# Altium integrated library Linear Technology Power Management LED Driver ICs.IntLib: 490 symbols (part 6 of 48)
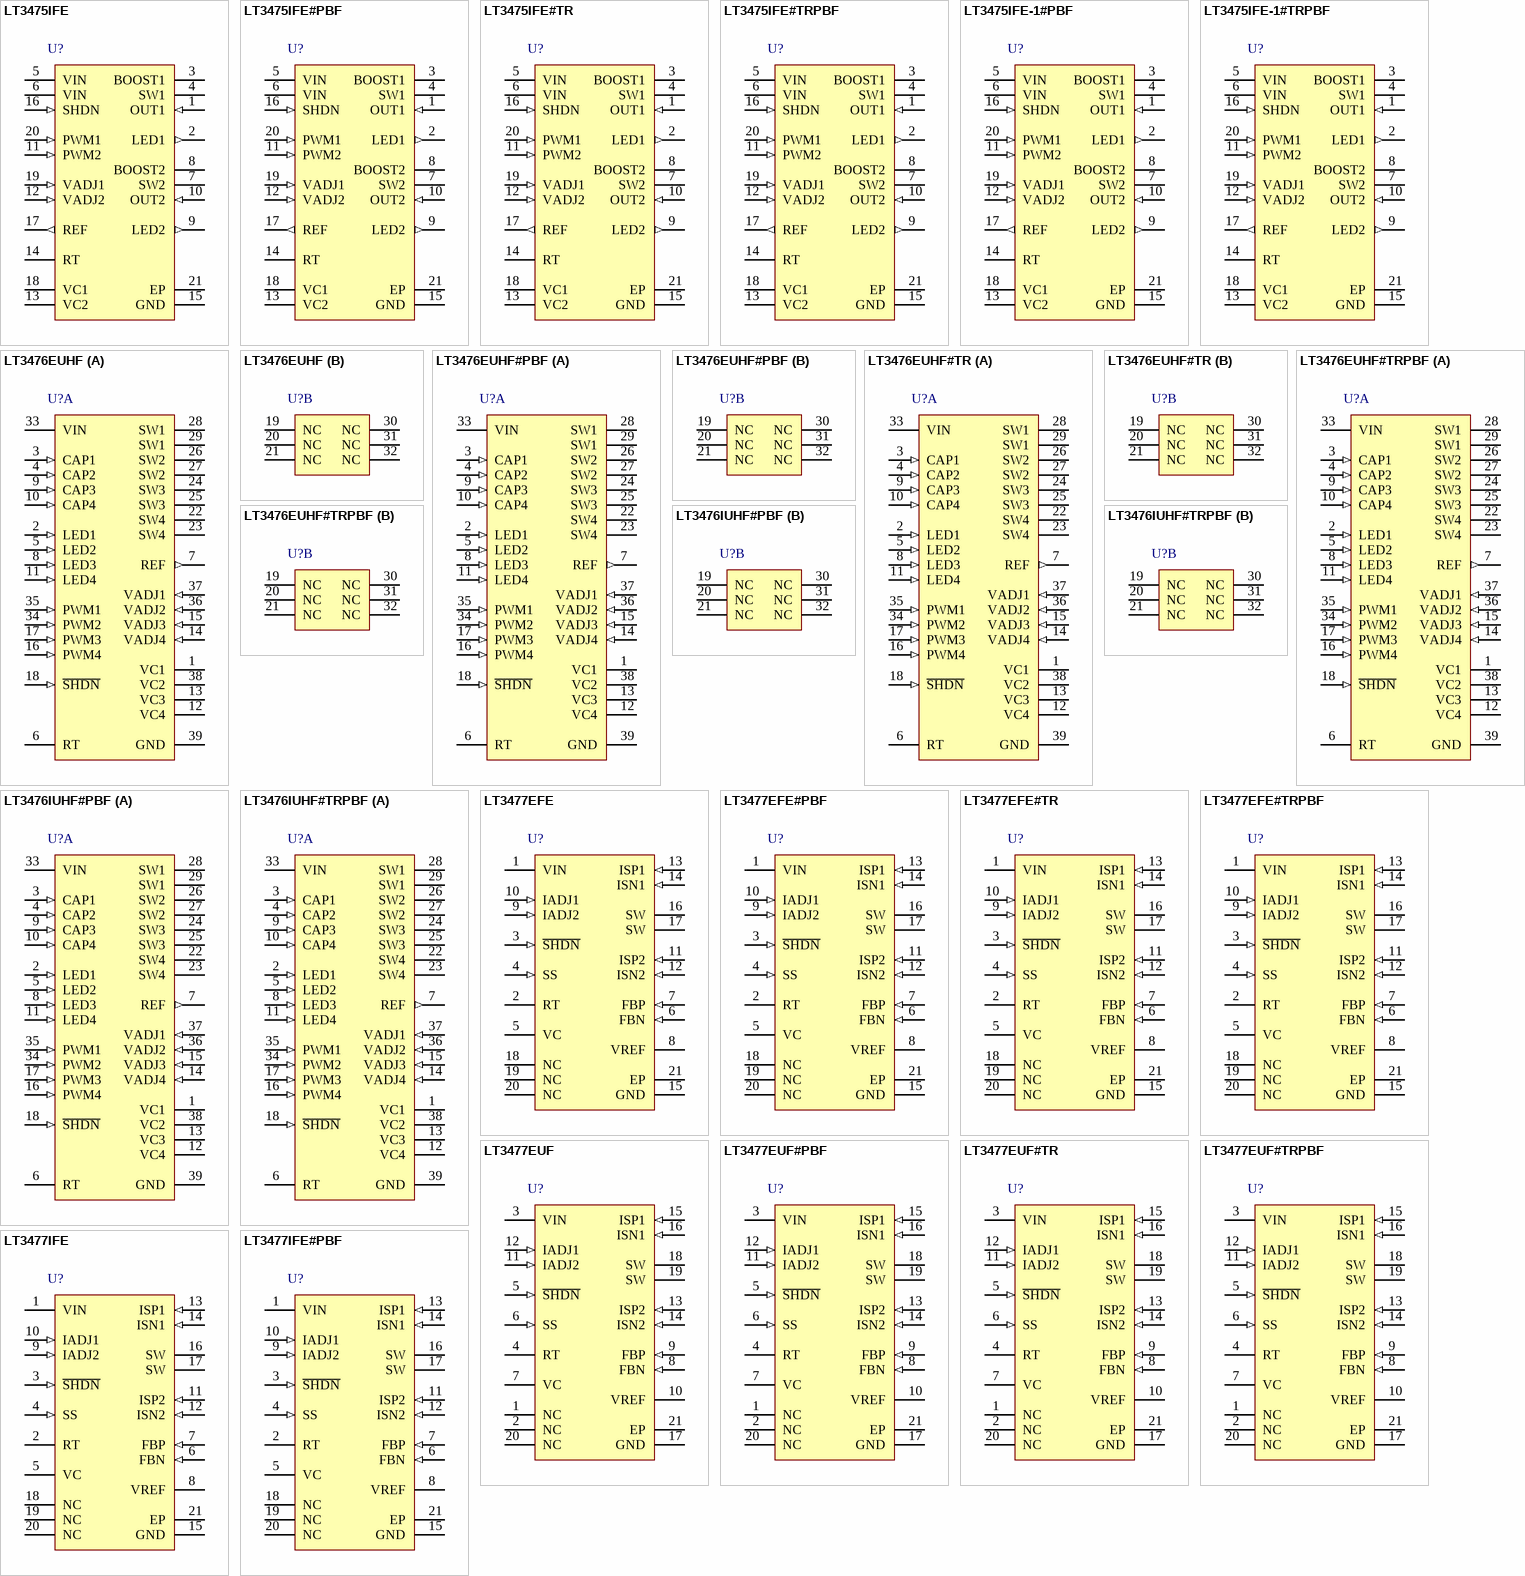
[diagram p25: symbols LT3475IFE to LT3477IFE#PBF]

## LT3476EUHF#PBF
designator U?
High Current Quad Output LED Driver, 2.8 to 16 V Vin, 36 V Vout MAX, 38-pin QFN (UHF-38), -40 to 85 degC, Pb-Free; Manufacturer: Linear Technology; PartNumber: LT3476EUHF#PBF; Topology: Boost, Buck-Boost, Buck, LED Driver; Vin Min(V): 2.8; DatasheetVersion: Rev. B; PackageVersion: Rev. C, 06/2010; PackageReference: UHF-38; PackageDescription: 38-Pin Plastic QFN, Body 7 x 5 mm, Pitch 0.5 mm; Supplier 1: Digi-Key; Supplier Part Number 1: LT3476EUHF#PBF-ND; Supplier 2: Farnell; Supplier Part Number 2: 1715219; Supplier 3: Newark; Supplier Part Number 3: 57M8306; RoHS: TRUE; Mounting Technology: Surface Mount; Code_JEDEC: MO-220; ComponentLink1Description: Manufacturer URL; ComponentLink1URL: http://www.linear.com/; ComponentLink2Description: Datasheet; ComponentLink2URL: http://cds.linear.com/docs/en/datasheet/3476fb.pdf; ComponentLink3Description: Package Specification; ComponentLink3URL: http://cds.linear.com/docs/en/packaging/QFN_38_05-08-1701.pdf
footprint LT-UHF-38_N (QFN, 38-Leads, Body 7.1x5.1mm, Pitch 0.5mm, Thermal Pad 3.15x5.15mm, IPC Medium Density)
footprint LT-UHF-38_L (QFN, 38-Leads, Body 7.1x5.1mm, Pitch 0.5mm, Thermal Pad 3.15x5.15mm, IPC High Density)
footprint LT-UHF-38_M (QFN, 38-Leads, Body 7.1x5.1mm, Pitch 0.5mm, Thermal Pad 3.15x5.15mm, IPC Low Density)
part A pins: 1 VC1 "Error Amplifier Compensation Pin. When PWM is low, VC pin floats external compensation capacitor to save state for next cycle.", 2 LED1 (in) "Non-Inverting Input of Current Sense Error Amplifier. Connect directly to LED current sense resistor terminal. Switcher will regulate this node to a voltage of 0.1• VADJ below the CAP node. Also connected to CAP nod(See Datasheet)", 3 CAP1 (in) "Inverting input of current sense error amplifier. Connect directly to other terminal of LED current sense resistor. Also connected to output filter capacitor and cathode of external Schottky rectifier. CAP greater than the (See Datasheet)", 4 CAP2 (in) "Inverting input of current sense error amplifier. Connect directly to other terminal of LED current sense resistor. Also connected to output filter capacitor and cathode of external Schottky rectifier. CAP greater than the (See Datasheet)", 5 LED2 (in) "Non-Inverting Input of Current Sense Error Amplifier. Connect directly to LED current sense resistor terminal. Switcher will regulate this node to a voltage of 0.1• VADJ below the CAP node. Also connected to CAP nod(See Datasheet)", 6 RT "Oscillator Programming Pin. Place resistor connected to GND to program oscillator frequency.", 7 REF (out) "Reference Output Pin. Connect to VADJ pin to get full-scale LED current. Connect to resistor dividers to program VADJ pins to values lower than 1.05 V. Bypass to local GND with 0.1 uF capacitor.", 8 LED3 (in) "Non-Inverting Input of Current Sense Error Amplifier. Connect directly to LED current sense resistor terminal. Switcher will regulate this node to a voltage of 0.1• VADJ below the CAP node. Also connected to CAP nod(See Datasheet)", 9 CAP3 (in) "Inverting input of current sense error amplifier. Connect directly to other terminal of LED current sense resistor. Also connected to output filter capacitor and cathode of external Schottky rectifier. CAP greater than the (See Datasheet)", 10 CAP4 (in) "Inverting input of current sense error amplifier. Connect directly to other terminal of LED current sense resistor. Also connected to output filter capacitor and cathode of external Schottky rectifier. CAP greater than the (See Datasheet)", 11 LED4 (in) "Non-Inverting Input of Current Sense Error Amplifier. Connect directly to LED current sense resistor terminal. Switcher will regulate this node to a voltage of 0.1• VADJ below the CAP node. Also connected to CAP nod(See Datasheet)", 12 VC4 "Error Amplifier Compensation Pin. When PWM is low, VC pin floats external compensation capacitor to save state for next cycle.", 13 VC3 "Error Amplifier Compensation Pin. When PWM is low, VC pin floats external compensation capacitor to save state for next cycle.", 14 VADJ4 (in) "LED Current Adjustment Pin. Sets voltage across external sense resistor between CAPn and LEDn. Connect directly to REF for full-scale threshold of 105 mV, or use signal vales between GND and REF to modulate LED current. VADJ (See Datasheet)", 15 VADJ3 (in) "LED Current Adjustment Pin. Sets voltage across external sense resistor between CAPn and LEDn. Connect directly to REF for full-scale threshold of 105 mV, or use signal vales between GND and REF to modulate LED current. VADJ (See Datasheet)", 16 PWM4 (in) "Signal low turns off the channel-disables the main switch, reduces quiescent supply current to the channel, and causes the VC pin for the channel to become high impedance.", 17 PWM3 (in) "Signal low turns off the channel-disables the main switch, reduces quiescent supply current to the channel, and causes the VC pin for the channel to become high impedance.", 18 ~{SHDN} (in) "Shutdown Pin. Higher than 1.5 V turns the device on.", 22 SW4 (power) "Switch Pin. Connect to external inductor and anode of external Schottky rectifier. Minimize area of SW trace and use a GND plane to reduce EMI. Adjacent pins of same name are internally connected.", 23 SW4 (power) "Switch Pin. Connect to external inductor and anode of external Schottky rectifier. Minimize area of SW trace and use a GND plane to reduce EMI. Adjacent pins of same name are internally connected.", 24 SW3 (power) "Switch Pin. Connect to external inductor and anode of external Schottky rectifier. Minimize area of SW trace and use a GND plane to reduce EMI. Adjacent pins of same name are internally connected.", 25 SW3 (power) "Switch Pin. Connect to external inductor and anode of external Schottky rectifier. Minimize area of SW trace and use a GND plane to reduce EMI. Adjacent pins of same name are internally connected.", 26 SW2 (power) "Switch Pin. Connect to external inductor and anode of external Schottky rectifier. Minimize area of SW trace and use a GND plane to reduce EMI. Adjacent pins of same name are internally connected.", 27 SW2 (power) "Switch Pin. Connect to external inductor and anode of external Schottky rectifier. Minimize area of SW trace and use a GND plane to reduce EMI. Adjacent pins of same name are internally connected.", 28 SW1 (power) "Switch Pin. Connect to external inductor and anode of external Schottky rectifier. Minimize area of SW trace and use a GND plane to reduce EMI. Adjacent pins of same name are internally connected.", 29 SW1 (power) "Switch Pin. Connect to external inductor and anode of external Schottky rectifier. Minimize area of SW trace and use a GND plane to reduce EMI. Adjacent pins of same name are internally connected.", 33 VIN (power) "Input Supply Pin. Must be locally bypassed.", 34 PWM2 (in) "Signal low turns off the channel-disables the main switch, reduces quiescent supply current to the channel, and causes the VC pin for the channel to become high impedance.", 35 PWM1 (in) "Signal low turns off the channel-disables the main switch, reduces quiescent supply current to the channel, and causes the VC pin for the channel to become high impedance.", 36 VADJ2 (in) "LED Current Adjustment Pin. Sets voltage across external sense resistor between CAPn and LEDn. Connect directly to REF for full-scale threshold of 105 mV, or use signal vales between GND and REF to modulate LED current. VADJ (See Datasheet)", 37 VADJ1 (in) "LED Current Adjustment Pin. Sets voltage across external sense resistor between CAPn and LEDn. Connect directly to REF for full-scale threshold of 105 mV, or use signal vales between GND and REF to modulate LED current. VADJ (See Datasheet)", 38 VC2 "Error Amplifier Compensation Pin. When PWM is low, VC pin floats external compensation capacitor to save state for next cycle.", 39 GND (power) "Signal and Power GND. Solder exposed pad directly to ground plane. The exposed pad metal of the package provides both electrical contact to ground and good thermal contact to the printed circuit board. It must be soldered to (See Datasheet)"
part B pins: 19 NC "Not Used. Connect to GND (Pin 39) for better heat dissipation.", 20 NC "Not Used. Connect to GND (Pin 39) for better heat dissipation.", 21 NC "Not Used. Connect to GND (Pin 39) for better heat dissipation.", 30 NC "Not Used. Connect to GND (Pin 39) for better heat dissipation.", 31 NC "Not Used. Connect to GND (Pin 39) for better heat dissipation.", 32 NC "Not Used. Connect to GND (Pin 39) for better heat dissipation."

## LT3476EUHF#TR
designator U?
High Current Quad Output LED Driver, 2.8 to 16 V Vin, 36 V Vout MAX, 38-pin QFN (UHF-38), -40 to 85 degC, Tape and Reel; Manufacturer: Linear Technology; PartNumber: LT3476EUHF#TR; Topology: Boost, Buck-Boost, Buck, LED Driver; Vin Min(V): 2.8; DatasheetVersion: Rev. B; PackageVersion: Rev. C, 06/2010; PackageReference: UHF-38; PackageDescription: 38-Pin Plastic QFN, Body 7 x 5 mm, Pitch 0.5 mm; Supplier 1: Newark; Supplier Part Number 1: 57M8307; Packing: Tape and Reel; RoHS: FALSE; Mounting Technology: Surface Mount; Code_JEDEC: MO-220; ComponentLink1Description: Manufacturer URL; ComponentLink1URL: http://www.linear.com/; ComponentLink2Description: Datasheet; ComponentLink2URL: http://cds.linear.com/docs/en/datasheet/3476fb.pdf; ComponentLink3Description: Package Specification; ComponentLink3URL: http://cds.linear.com/docs/en/packaging/QFN_38_05-08-1701.pdf
footprint LT-UHF-38_N (QFN, 38-Leads, Body 7.1x5.1mm, Pitch 0.5mm, Thermal Pad 3.15x5.15mm, IPC Medium Density)
footprint LT-UHF-38_L (QFN, 38-Leads, Body 7.1x5.1mm, Pitch 0.5mm, Thermal Pad 3.15x5.15mm, IPC High Density)
footprint LT-UHF-38_M (QFN, 38-Leads, Body 7.1x5.1mm, Pitch 0.5mm, Thermal Pad 3.15x5.15mm, IPC Low Density)
part A pins: 1 VC1 "Error Amplifier Compensation Pin. When PWM is low, VC pin floats external compensation capacitor to save state for next cycle.", 2 LED1 (in) "Non-Inverting Input of Current Sense Error Amplifier. Connect directly to LED current sense resistor terminal. Switcher will regulate this node to a voltage of 0.1• VADJ below the CAP node. Also connected to CAP nod(See Datasheet)", 3 CAP1 (in) "Inverting input of current sense error amplifier. Connect directly to other terminal of LED current sense resistor. Also connected to output filter capacitor and cathode of external Schottky rectifier. CAP greater than the (See Datasheet)", 4 CAP2 (in) "Inverting input of current sense error amplifier. Connect directly to other terminal of LED current sense resistor. Also connected to output filter capacitor and cathode of external Schottky rectifier. CAP greater than the (See Datasheet)", 5 LED2 (in) "Non-Inverting Input of Current Sense Error Amplifier. Connect directly to LED current sense resistor terminal. Switcher will regulate this node to a voltage of 0.1• VADJ below the CAP node. Also connected to CAP nod(See Datasheet)", 6 RT "Oscillator Programming Pin. Place resistor connected to GND to program oscillator frequency.", 7 REF (out) "Reference Output Pin. Connect to VADJ pin to get full-scale LED current. Connect to resistor dividers to program VADJ pins to values lower than 1.05 V. Bypass to local GND with 0.1 uF capacitor.", 8 LED3 (in) "Non-Inverting Input of Current Sense Error Amplifier. Connect directly to LED current sense resistor terminal. Switcher will regulate this node to a voltage of 0.1• VADJ below the CAP node. Also connected to CAP nod(See Datasheet)", 9 CAP3 (in) "Inverting input of current sense error amplifier. Connect directly to other terminal of LED current sense resistor. Also connected to output filter capacitor and cathode of external Schottky rectifier. CAP greater than the (See Datasheet)", 10 CAP4 (in) "Inverting input of current sense error amplifier. Connect directly to other terminal of LED current sense resistor. Also connected to output filter capacitor and cathode of external Schottky rectifier. CAP greater than the (See Datasheet)", 11 LED4 (in) "Non-Inverting Input of Current Sense Error Amplifier. Connect directly to LED current sense resistor terminal. Switcher will regulate this node to a voltage of 0.1• VADJ below the CAP node. Also connected to CAP nod(See Datasheet)", 12 VC4 "Error Amplifier Compensation Pin. When PWM is low, VC pin floats external compensation capacitor to save state for next cycle.", 13 VC3 "Error Amplifier Compensation Pin. When PWM is low, VC pin floats external compensation capacitor to save state for next cycle.", 14 VADJ4 (in) "LED Current Adjustment Pin. Sets voltage across external sense resistor between CAPn and LEDn. Connect directly to REF for full-scale threshold of 105 mV, or use signal vales between GND and REF to modulate LED current. VADJ (See Datasheet)", 15 VADJ3 (in) "LED Current Adjustment Pin. Sets voltage across external sense resistor between CAPn and LEDn. Connect directly to REF for full-scale threshold of 105 mV, or use signal vales between GND and REF to modulate LED current. VADJ (See Datasheet)", 16 PWM4 (in) "Signal low turns off the channel-disables the main switch, reduces quiescent supply current to the channel, and causes the VC pin for the channel to become high impedance.", 17 PWM3 (in) "Signal low turns off the channel-disables the main switch, reduces quiescent supply current to the channel, and causes the VC pin for the channel to become high impedance.", 18 ~{SHDN} (in) "Shutdown Pin. Higher than 1.5 V turns the device on.", 22 SW4 (power) "Switch Pin. Connect to external inductor and anode of external Schottky rectifier. Minimize area of SW trace and use a GND plane to reduce EMI. Adjacent pins of same name are internally connected.", 23 SW4 (power) "Switch Pin. Connect to external inductor and anode of external Schottky rectifier. Minimize area of SW trace and use a GND plane to reduce EMI. Adjacent pins of same name are internally connected.", 24 SW3 (power) "Switch Pin. Connect to external inductor and anode of external Schottky rectifier. Minimize area of SW trace and use a GND plane to reduce EMI. Adjacent pins of same name are internally connected.", 25 SW3 (power) "Switch Pin. Connect to external inductor and anode of external Schottky rectifier. Minimize area of SW trace and use a GND plane to reduce EMI. Adjacent pins of same name are internally connected.", 26 SW2 (power) "Switch Pin. Connect to external inductor and anode of external Schottky rectifier. Minimize area of SW trace and use a GND plane to reduce EMI. Adjacent pins of same name are internally connected.", 27 SW2 (power) "Switch Pin. Connect to external inductor and anode of external Schottky rectifier. Minimize area of SW trace and use a GND plane to reduce EMI. Adjacent pins of same name are internally connected.", 28 SW1 (power) "Switch Pin. Connect to external inductor and anode of external Schottky rectifier. Minimize area of SW trace and use a GND plane to reduce EMI. Adjacent pins of same name are internally connected.", 29 SW1 (power) "Switch Pin. Connect to external inductor and anode of external Schottky rectifier. Minimize area of SW trace and use a GND plane to reduce EMI. Adjacent pins of same name are internally connected.", 33 VIN (power) "Input Supply Pin. Must be locally bypassed.", 34 PWM2 (in) "Signal low turns off the channel-disables the main switch, reduces quiescent supply current to the channel, and causes the VC pin for the channel to become high impedance.", 35 PWM1 (in) "Signal low turns off the channel-disables the main switch, reduces quiescent supply current to the channel, and causes the VC pin for the channel to become high impedance.", 36 VADJ2 (in) "LED Current Adjustment Pin. Sets voltage across external sense resistor between CAPn and LEDn. Connect directly to REF for full-scale threshold of 105 mV, or use signal vales between GND and REF to modulate LED current. VADJ (See Datasheet)", 37 VADJ1 (in) "LED Current Adjustment Pin. Sets voltage across external sense resistor between CAPn and LEDn. Connect directly to REF for full-scale threshold of 105 mV, or use signal vales between GND and REF to modulate LED current. VADJ (See Datasheet)", 38 VC2 "Error Amplifier Compensation Pin. When PWM is low, VC pin floats external compensation capacitor to save state for next cycle.", 39 GND (power) "Signal and Power GND. Solder exposed pad directly to ground plane. The exposed pad metal of the package provides both electrical contact to ground and good thermal contact to the printed circuit board. It must be soldered to (See Datasheet)"
part B pins: 19 NC "Not Used. Connect to GND (Pin 39) for better heat dissipation.", 20 NC "Not Used. Connect to GND (Pin 39) for better heat dissipation.", 21 NC "Not Used. Connect to GND (Pin 39) for better heat dissipation.", 30 NC "Not Used. Connect to GND (Pin 39) for better heat dissipation.", 31 NC "Not Used. Connect to GND (Pin 39) for better heat dissipation.", 32 NC "Not Used. Connect to GND (Pin 39) for better heat dissipation."

## LT3476EUHF#TRPBF
designator U?
High Current Quad Output LED Driver, 2.8 to 16 V Vin, 36 V Vout MAX, 38-pin QFN (UHF-38), -40 to 85 degC, Pb-Free, Tape and Reel; Manufacturer: Linear Technology; PartNumber: LT3476EUHF#TRPBF; Topology: Boost, Buck-Boost, Buck, LED Driver; Vin Min(V): 2.8; DatasheetVersion: Rev. B; PackageVersion: Rev. C, 06/2010; PackageReference: UHF-38; PackageDescription: 38-Pin Plastic QFN, Body 7 x 5 mm, Pitch 0.5 mm; Supplier 1: Digi-Key; Supplier Part Number 1: LT3476EUHF#TRPBF-ND; Supplier 2: Newark; Supplier Part Number 2: 57M8308; Packing: Tape and Reel; RoHS: TRUE; Mounting Technology: Surface Mount; Code_JEDEC: MO-220; ComponentLink1Description: Manufacturer URL; ComponentLink1URL: http://www.linear.com/; ComponentLink2Description: Datasheet; ComponentLink2URL: http://cds.linear.com/docs/en/datasheet/3476fb.pdf; ComponentLink3Description: Package Specification; ComponentLink3URL: http://cds.linear.com/docs/en/packaging/QFN_38_05-08-1701.pdf
footprint LT-UHF-38_N (QFN, 38-Leads, Body 7.1x5.1mm, Pitch 0.5mm, Thermal Pad 3.15x5.15mm, IPC Medium Density)
footprint LT-UHF-38_L (QFN, 38-Leads, Body 7.1x5.1mm, Pitch 0.5mm, Thermal Pad 3.15x5.15mm, IPC High Density)
footprint LT-UHF-38_M (QFN, 38-Leads, Body 7.1x5.1mm, Pitch 0.5mm, Thermal Pad 3.15x5.15mm, IPC Low Density)
part A pins: 1 VC1 "Error Amplifier Compensation Pin. When PWM is low, VC pin floats external compensation capacitor to save state for next cycle.", 2 LED1 (in) "Non-Inverting Input of Current Sense Error Amplifier. Connect directly to LED current sense resistor terminal. Switcher will regulate this node to a voltage of 0.1• VADJ below the CAP node. Also connected to CAP nod(See Datasheet)", 3 CAP1 (in) "Inverting input of current sense error amplifier. Connect directly to other terminal of LED current sense resistor. Also connected to output filter capacitor and cathode of external Schottky rectifier. CAP greater than the (See Datasheet)", 4 CAP2 (in) "Inverting input of current sense error amplifier. Connect directly to other terminal of LED current sense resistor. Also connected to output filter capacitor and cathode of external Schottky rectifier. CAP greater than the (See Datasheet)", 5 LED2 (in) "Non-Inverting Input of Current Sense Error Amplifier. Connect directly to LED current sense resistor terminal. Switcher will regulate this node to a voltage of 0.1• VADJ below the CAP node. Also connected to CAP nod(See Datasheet)", 6 RT "Oscillator Programming Pin. Place resistor connected to GND to program oscillator frequency.", 7 REF (out) "Reference Output Pin. Connect to VADJ pin to get full-scale LED current. Connect to resistor dividers to program VADJ pins to values lower than 1.05 V. Bypass to local GND with 0.1 uF capacitor.", 8 LED3 (in) "Non-Inverting Input of Current Sense Error Amplifier. Connect directly to LED current sense resistor terminal. Switcher will regulate this node to a voltage of 0.1• VADJ below the CAP node. Also connected to CAP nod(See Datasheet)", 9 CAP3 (in) "Inverting input of current sense error amplifier. Connect directly to other terminal of LED current sense resistor. Also connected to output filter capacitor and cathode of external Schottky rectifier. CAP greater than the (See Datasheet)", 10 CAP4 (in) "Inverting input of current sense error amplifier. Connect directly to other terminal of LED current sense resistor. Also connected to output filter capacitor and cathode of external Schottky rectifier. CAP greater than the (See Datasheet)", 11 LED4 (in) "Non-Inverting Input of Current Sense Error Amplifier. Connect directly to LED current sense resistor terminal. Switcher will regulate this node to a voltage of 0.1• VADJ below the CAP node. Also connected to CAP nod(See Datasheet)", 12 VC4 "Error Amplifier Compensation Pin. When PWM is low, VC pin floats external compensation capacitor to save state for next cycle.", 13 VC3 "Error Amplifier Compensation Pin. When PWM is low, VC pin floats external compensation capacitor to save state for next cycle.", 14 VADJ4 (in) "LED Current Adjustment Pin. Sets voltage across external sense resistor between CAPn and LEDn. Connect directly to REF for full-scale threshold of 105 mV, or use signal vales between GND and REF to modulate LED current. VADJ (See Datasheet)", 15 VADJ3 (in) "LED Current Adjustment Pin. Sets voltage across external sense resistor between CAPn and LEDn. Connect directly to REF for full-scale threshold of 105 mV, or use signal vales between GND and REF to modulate LED current. VADJ (See Datasheet)", 16 PWM4 (in) "Signal low turns off the channel-disables the main switch, reduces quiescent supply current to the channel, and causes the VC pin for the channel to become high impedance.", 17 PWM3 (in) "Signal low turns off the channel-disables the main switch, reduces quiescent supply current to the channel, and causes the VC pin for the channel to become high impedance.", 18 ~{SHDN} (in) "Shutdown Pin. Higher than 1.5 V turns the device on.", 22 SW4 (power) "Switch Pin. Connect to external inductor and anode of external Schottky rectifier. Minimize area of SW trace and use a GND plane to reduce EMI. Adjacent pins of same name are internally connected.", 23 SW4 (power) "Switch Pin. Connect to external inductor and anode of external Schottky rectifier. Minimize area of SW trace and use a GND plane to reduce EMI. Adjacent pins of same name are internally connected.", 24 SW3 (power) "Switch Pin. Connect to external inductor and anode of external Schottky rectifier. Minimize area of SW trace and use a GND plane to reduce EMI. Adjacent pins of same name are internally connected.", 25 SW3 (power) "Switch Pin. Connect to external inductor and anode of external Schottky rectifier. Minimize area of SW trace and use a GND plane to reduce EMI. Adjacent pins of same name are internally connected.", 26 SW2 (power) "Switch Pin. Connect to external inductor and anode of external Schottky rectifier. Minimize area of SW trace and use a GND plane to reduce EMI. Adjacent pins of same name are internally connected.", 27 SW2 (power) "Switch Pin. Connect to external inductor and anode of external Schottky rectifier. Minimize area of SW trace and use a GND plane to reduce EMI. Adjacent pins of same name are internally connected.", 28 SW1 (power) "Switch Pin. Connect to external inductor and anode of external Schottky rectifier. Minimize area of SW trace and use a GND plane to reduce EMI. Adjacent pins of same name are internally connected.", 29 SW1 (power) "Switch Pin. Connect to external inductor and anode of external Schottky rectifier. Minimize area of SW trace and use a GND plane to reduce EMI. Adjacent pins of same name are internally connected.", 33 VIN (power) "Input Supply Pin. Must be locally bypassed.", 34 PWM2 (in) "Signal low turns off the channel-disables the main switch, reduces quiescent supply current to the channel, and causes the VC pin for the channel to become high impedance.", 35 PWM1 (in) "Signal low turns off the channel-disables the main switch, reduces quiescent supply current to the channel, and causes the VC pin for the channel to become high impedance.", 36 VADJ2 (in) "LED Current Adjustment Pin. Sets voltage across external sense resistor between CAPn and LEDn. Connect directly to REF for full-scale threshold of 105 mV, or use signal vales between GND and REF to modulate LED current. VADJ (See Datasheet)", 37 VADJ1 (in) "LED Current Adjustment Pin. Sets voltage across external sense resistor between CAPn and LEDn. Connect directly to REF for full-scale threshold of 105 mV, or use signal vales between GND and REF to modulate LED current. VADJ (See Datasheet)", 38 VC2 "Error Amplifier Compensation Pin. When PWM is low, VC pin floats external compensation capacitor to save state for next cycle.", 39 GND (power) "Signal and Power GND. Solder exposed pad directly to ground plane. The exposed pad metal of the package provides both electrical contact to ground and good thermal contact to the printed circuit board. It must be soldered to (See Datasheet)"
part B pins: 19 NC "Not Used. Connect to GND (Pin 39) for better heat dissipation.", 20 NC "Not Used. Connect to GND (Pin 39) for better heat dissipation.", 21 NC "Not Used. Connect to GND (Pin 39) for better heat dissipation.", 30 NC "Not Used. Connect to GND (Pin 39) for better heat dissipation.", 31 NC "Not Used. Connect to GND (Pin 39) for better heat dissipation.", 32 NC "Not Used. Connect to GND (Pin 39) for better heat dissipation."

## LT3476IUHF#PBF
designator U?
High Current Quad Output LED Driver, 2.8 to 16 V Vin, 36 V Vout MAX, 38-pin QFN (UHF-38), -40 to 125 degC, Pb-Free; Manufacturer: Linear Technology; PartNumber: LT3476IUHF#PBF; Topology: Boost, Buck-Boost, Buck, LED Driver; Vin Min(V): 2.8; DatasheetVersion: Rev. B; PackageVersion: Rev. C, 06/2010; PackageReference: UHF-38; PackageDescription: 38-Pin Plastic QFN, Body 7 x 5 mm, Pitch 0.5 mm; Supplier 1: Digi-Key; Supplier Part Number 1: LT3476IUHF#PBF-ND; RoHS: TRUE; Mounting Technology: Surface Mount; Code_JEDEC: MO-220; ComponentLink1Description: Manufacturer URL; ComponentLink1URL: http://www.linear.com/; ComponentLink2Description: Datasheet; ComponentLink2URL: http://cds.linear.com/docs/en/datasheet/3476fb.pdf; ComponentLink3Description: Package Specification; ComponentLink3URL: http://cds.linear.com/docs/en/packaging/QFN_38_05-08-1701.pdf
footprint LT-UHF-38_N (QFN, 38-Leads, Body 7.1x5.1mm, Pitch 0.5mm, Thermal Pad 3.15x5.15mm, IPC Medium Density)
footprint LT-UHF-38_L (QFN, 38-Leads, Body 7.1x5.1mm, Pitch 0.5mm, Thermal Pad 3.15x5.15mm, IPC High Density)
footprint LT-UHF-38_M (QFN, 38-Leads, Body 7.1x5.1mm, Pitch 0.5mm, Thermal Pad 3.15x5.15mm, IPC Low Density)
part A pins: 1 VC1 "Error Amplifier Compensation Pin. When PWM is low, VC pin floats external compensation capacitor to save state for next cycle.", 2 LED1 (in) "Non-Inverting Input of Current Sense Error Amplifier. Connect directly to LED current sense resistor terminal. Switcher will regulate this node to a voltage of 0.1• VADJ below the CAP node. Also connected to CAP nod(See Datasheet)", 3 CAP1 (in) "Inverting input of current sense error amplifier. Connect directly to other terminal of LED current sense resistor. Also connected to output filter capacitor and cathode of external Schottky rectifier. CAP greater than the (See Datasheet)", 4 CAP2 (in) "Inverting input of current sense error amplifier. Connect directly to other terminal of LED current sense resistor. Also connected to output filter capacitor and cathode of external Schottky rectifier. CAP greater than the (See Datasheet)", 5 LED2 (in) "Non-Inverting Input of Current Sense Error Amplifier. Connect directly to LED current sense resistor terminal. Switcher will regulate this node to a voltage of 0.1• VADJ below the CAP node. Also connected to CAP nod(See Datasheet)", 6 RT "Oscillator Programming Pin. Place resistor connected to GND to program oscillator frequency.", 7 REF (out) "Reference Output Pin. Connect to VADJ pin to get full-scale LED current. Connect to resistor dividers to program VADJ pins to values lower than 1.05 V. Bypass to local GND with 0.1 uF capacitor.", 8 LED3 (in) "Non-Inverting Input of Current Sense Error Amplifier. Connect directly to LED current sense resistor terminal. Switcher will regulate this node to a voltage of 0.1• VADJ below the CAP node. Also connected to CAP nod(See Datasheet)", 9 CAP3 (in) "Inverting input of current sense error amplifier. Connect directly to other terminal of LED current sense resistor. Also connected to output filter capacitor and cathode of external Schottky rectifier. CAP greater than the (See Datasheet)", 10 CAP4 (in) "Inverting input of current sense error amplifier. Connect directly to other terminal of LED current sense resistor. Also connected to output filter capacitor and cathode of external Schottky rectifier. CAP greater than the (See Datasheet)", 11 LED4 (in) "Non-Inverting Input of Current Sense Error Amplifier. Connect directly to LED current sense resistor terminal. Switcher will regulate this node to a voltage of 0.1• VADJ below the CAP node. Also connected to CAP nod(See Datasheet)", 12 VC4 "Error Amplifier Compensation Pin. When PWM is low, VC pin floats external compensation capacitor to save state for next cycle.", 13 VC3 "Error Amplifier Compensation Pin. When PWM is low, VC pin floats external compensation capacitor to save state for next cycle.", 14 VADJ4 (in) "LED Current Adjustment Pin. Sets voltage across external sense resistor between CAPn and LEDn. Connect directly to REF for full-scale threshold of 105 mV, or use signal vales between GND and REF to modulate LED current. VADJ (See Datasheet)", 15 VADJ3 (in) "LED Current Adjustment Pin. Sets voltage across external sense resistor between CAPn and LEDn. Connect directly to REF for full-scale threshold of 105 mV, or use signal vales between GND and REF to modulate LED current. VADJ (See Datasheet)", 16 PWM4 (in) "Signal low turns off the channel-disables the main switch, reduces quiescent supply current to the channel, and causes the VC pin for the channel to become high impedance.", 17 PWM3 (in) "Signal low turns off the channel-disables the main switch, reduces quiescent supply current to the channel, and causes the VC pin for the channel to become high impedance.", 18 ~{SHDN} (in) "Shutdown Pin. Higher than 1.5 V turns the device on.", 22 SW4 (power) "Switch Pin. Connect to external inductor and anode of external Schottky rectifier. Minimize area of SW trace and use a GND plane to reduce EMI. Adjacent pins of same name are internally connected.", 23 SW4 (power) "Switch Pin. Connect to external inductor and anode of external Schottky rectifier. Minimize area of SW trace and use a GND plane to reduce EMI. Adjacent pins of same name are internally connected.", 24 SW3 (power) "Switch Pin. Connect to external inductor and anode of external Schottky rectifier. Minimize area of SW trace and use a GND plane to reduce EMI. Adjacent pins of same name are internally connected.", 25 SW3 (power) "Switch Pin. Connect to external inductor and anode of external Schottky rectifier. Minimize area of SW trace and use a GND plane to reduce EMI. Adjacent pins of same name are internally connected.", 26 SW2 (power) "Switch Pin. Connect to external inductor and anode of external Schottky rectifier. Minimize area of SW trace and use a GND plane to reduce EMI. Adjacent pins of same name are internally connected.", 27 SW2 (power) "Switch Pin. Connect to external inductor and anode of external Schottky rectifier. Minimize area of SW trace and use a GND plane to reduce EMI. Adjacent pins of same name are internally connected.", 28 SW1 (power) "Switch Pin. Connect to external inductor and anode of external Schottky rectifier. Minimize area of SW trace and use a GND plane to reduce EMI. Adjacent pins of same name are internally connected.", 29 SW1 (power) "Switch Pin. Connect to external inductor and anode of external Schottky rectifier. Minimize area of SW trace and use a GND plane to reduce EMI. Adjacent pins of same name are internally connected.", 33 VIN (power) "Input Supply Pin. Must be locally bypassed.", 34 PWM2 (in) "Signal low turns off the channel-disables the main switch, reduces quiescent supply current to the channel, and causes the VC pin for the channel to become high impedance.", 35 PWM1 (in) "Signal low turns off the channel-disables the main switch, reduces quiescent supply current to the channel, and causes the VC pin for the channel to become high impedance.", 36 VADJ2 (in) "LED Current Adjustment Pin. Sets voltage across external sense resistor between CAPn and LEDn. Connect directly to REF for full-scale threshold of 105 mV, or use signal vales between GND and REF to modulate LED current. VADJ (See Datasheet)", 37 VADJ1 (in) "LED Current Adjustment Pin. Sets voltage across external sense resistor between CAPn and LEDn. Connect directly to REF for full-scale threshold of 105 mV, or use signal vales between GND and REF to modulate LED current. VADJ (See Datasheet)", 38 VC2 "Error Amplifier Compensation Pin. When PWM is low, VC pin floats external compensation capacitor to save state for next cycle.", 39 GND (power) "Signal and Power GND. Solder exposed pad directly to ground plane. The exposed pad metal of the package provides both electrical contact to ground and good thermal contact to the printed circuit board. It must be soldered to (See Datasheet)"
part B pins: 19 NC "Not Used. Connect to GND (Pin 39) for better heat dissipation.", 20 NC "Not Used. Connect to GND (Pin 39) for better heat dissipation.", 21 NC "Not Used. Connect to GND (Pin 39) for better heat dissipation.", 30 NC "Not Used. Connect to GND (Pin 39) for better heat dissipation.", 31 NC "Not Used. Connect to GND (Pin 39) for better heat dissipation.", 32 NC "Not Used. Connect to GND (Pin 39) for better heat dissipation."

## LT3476IUHF#TRPBF
designator U?
High Current Quad Output LED Driver, 2.8 to 16 V Vin, 36 V Vout MAX, 38-pin QFN (UHF-38), -40 to 125 degC, Pb-Free, Tape and Reel; Manufacturer: Linear Technology; PartNumber: LT3476IUHF#TRPBF; Topology: Boost, Buck-Boost, Buck, LED Driver; Vin Min(V): 2.8; DatasheetVersion: Rev. B; PackageVersion: Rev. C, 06/2010; PackageReference: UHF-38; PackageDescription: 38-Pin Plastic QFN, Body 7 x 5 mm, Pitch 0.5 mm; Supplier 1: Digi-Key; Supplier Part Number 1: LT3476IUHF#TRPBF-ND; Supplier 2: Newark; Supplier Part Number 2: 59T5819; Packing: Tape and Reel; RoHS: TRUE; Mounting Technology: Surface Mount; Code_JEDEC: MO-220; ComponentLink1Description: Manufacturer URL; ComponentLink1URL: http://www.linear.com/; ComponentLink2Description: Datasheet; ComponentLink2URL: http://cds.linear.com/docs/en/datasheet/3476fb.pdf; ComponentLink3Description: Package Specification; ComponentLink3URL: http://cds.linear.com/docs/en/packaging/QFN_38_05-08-1701.pdf
footprint LT-UHF-38_N (QFN, 38-Leads, Body 7.1x5.1mm, Pitch 0.5mm, Thermal Pad 3.15x5.15mm, IPC Medium Density)
footprint LT-UHF-38_L (QFN, 38-Leads, Body 7.1x5.1mm, Pitch 0.5mm, Thermal Pad 3.15x5.15mm, IPC High Density)
footprint LT-UHF-38_M (QFN, 38-Leads, Body 7.1x5.1mm, Pitch 0.5mm, Thermal Pad 3.15x5.15mm, IPC Low Density)
part A pins: 1 VC1 "Error Amplifier Compensation Pin. When PWM is low, VC pin floats external compensation capacitor to save state for next cycle.", 2 LED1 (in) "Non-Inverting Input of Current Sense Error Amplifier. Connect directly to LED current sense resistor terminal. Switcher will regulate this node to a voltage of 0.1• VADJ below the CAP node. Also connected to CAP nod(See Datasheet)", 3 CAP1 (in) "Inverting input of current sense error amplifier. Connect directly to other terminal of LED current sense resistor. Also connected to output filter capacitor and cathode of external Schottky rectifier. CAP greater than the (See Datasheet)", 4 CAP2 (in) "Inverting input of current sense error amplifier. Connect directly to other terminal of LED current sense resistor. Also connected to output filter capacitor and cathode of external Schottky rectifier. CAP greater than the (See Datasheet)", 5 LED2 (in) "Non-Inverting Input of Current Sense Error Amplifier. Connect directly to LED current sense resistor terminal. Switcher will regulate this node to a voltage of 0.1• VADJ below the CAP node. Also connected to CAP nod(See Datasheet)", 6 RT "Oscillator Programming Pin. Place resistor connected to GND to program oscillator frequency.", 7 REF (out) "Reference Output Pin. Connect to VADJ pin to get full-scale LED current. Connect to resistor dividers to program VADJ pins to values lower than 1.05 V. Bypass to local GND with 0.1 uF capacitor.", 8 LED3 (in) "Non-Inverting Input of Current Sense Error Amplifier. Connect directly to LED current sense resistor terminal. Switcher will regulate this node to a voltage of 0.1• VADJ below the CAP node. Also connected to CAP nod(See Datasheet)", 9 CAP3 (in) "Inverting input of current sense error amplifier. Connect directly to other terminal of LED current sense resistor. Also connected to output filter capacitor and cathode of external Schottky rectifier. CAP greater than the (See Datasheet)", 10 CAP4 (in) "Inverting input of current sense error amplifier. Connect directly to other terminal of LED current sense resistor. Also connected to output filter capacitor and cathode of external Schottky rectifier. CAP greater than the (See Datasheet)", 11 LED4 (in) "Non-Inverting Input of Current Sense Error Amplifier. Connect directly to LED current sense resistor terminal. Switcher will regulate this node to a voltage of 0.1• VADJ below the CAP node. Also connected to CAP nod(See Datasheet)", 12 VC4 "Error Amplifier Compensation Pin. When PWM is low, VC pin floats external compensation capacitor to save state for next cycle.", 13 VC3 "Error Amplifier Compensation Pin. When PWM is low, VC pin floats external compensation capacitor to save state for next cycle.", 14 VADJ4 (in) "LED Current Adjustment Pin. Sets voltage across external sense resistor between CAPn and LEDn. Connect directly to REF for full-scale threshold of 105 mV, or use signal vales between GND and REF to modulate LED current. VADJ (See Datasheet)", 15 VADJ3 (in) "LED Current Adjustment Pin. Sets voltage across external sense resistor between CAPn and LEDn. Connect directly to REF for full-scale threshold of 105 mV, or use signal vales between GND and REF to modulate LED current. VADJ (See Datasheet)", 16 PWM4 (in) "Signal low turns off the channel-disables the main switch, reduces quiescent supply current to the channel, and causes the VC pin for the channel to become high impedance.", 17 PWM3 (in) "Signal low turns off the channel-disables the main switch, reduces quiescent supply current to the channel, and causes the VC pin for the channel to become high impedance.", 18 ~{SHDN} (in) "Shutdown Pin. Higher than 1.5 V turns the device on.", 22 SW4 (power) "Switch Pin. Connect to external inductor and anode of external Schottky rectifier. Minimize area of SW trace and use a GND plane to reduce EMI. Adjacent pins of same name are internally connected.", 23 SW4 (power) "Switch Pin. Connect to external inductor and anode of external Schottky rectifier. Minimize area of SW trace and use a GND plane to reduce EMI. Adjacent pins of same name are internally connected.", 24 SW3 (power) "Switch Pin. Connect to external inductor and anode of external Schottky rectifier. Minimize area of SW trace and use a GND plane to reduce EMI. Adjacent pins of same name are internally connected.", 25 SW3 (power) "Switch Pin. Connect to external inductor and anode of external Schottky rectifier. Minimize area of SW trace and use a GND plane to reduce EMI. Adjacent pins of same name are internally connected.", 26 SW2 (power) "Switch Pin. Connect to external inductor and anode of external Schottky rectifier. Minimize area of SW trace and use a GND plane to reduce EMI. Adjacent pins of same name are internally connected.", 27 SW2 (power) "Switch Pin. Connect to external inductor and anode of external Schottky rectifier. Minimize area of SW trace and use a GND plane to reduce EMI. Adjacent pins of same name are internally connected.", 28 SW1 (power) "Switch Pin. Connect to external inductor and anode of external Schottky rectifier. Minimize area of SW trace and use a GND plane to reduce EMI. Adjacent pins of same name are internally connected.", 29 SW1 (power) "Switch Pin. Connect to external inductor and anode of external Schottky rectifier. Minimize area of SW trace and use a GND plane to reduce EMI. Adjacent pins of same name are internally connected.", 33 VIN (power) "Input Supply Pin. Must be locally bypassed.", 34 PWM2 (in) "Signal low turns off the channel-disables the main switch, reduces quiescent supply current to the channel, and causes the VC pin for the channel to become high impedance.", 35 PWM1 (in) "Signal low turns off the channel-disables the main switch, reduces quiescent supply current to the channel, and causes the VC pin for the channel to become high impedance.", 36 VADJ2 (in) "LED Current Adjustment Pin. Sets voltage across external sense resistor between CAPn and LEDn. Connect directly to REF for full-scale threshold of 105 mV, or use signal vales between GND and REF to modulate LED current. VADJ (See Datasheet)", 37 VADJ1 (in) "LED Current Adjustment Pin. Sets voltage across external sense resistor between CAPn and LEDn. Connect directly to REF for full-scale threshold of 105 mV, or use signal vales between GND and REF to modulate LED current. VADJ (See Datasheet)", 38 VC2 "Error Amplifier Compensation Pin. When PWM is low, VC pin floats external compensation capacitor to save state for next cycle.", 39 GND (power) "Signal and Power GND. Solder exposed pad directly to ground plane. The exposed pad metal of the package provides both electrical contact to ground and good thermal contact to the printed circuit board. It must be soldered to (See Datasheet)"
part B pins: 19 NC "Not Used. Connect to GND (Pin 39) for better heat dissipation.", 20 NC "Not Used. Connect to GND (Pin 39) for better heat dissipation.", 21 NC "Not Used. Connect to GND (Pin 39) for better heat dissipation.", 30 NC "Not Used. Connect to GND (Pin 39) for better heat dissipation.", 31 NC "Not Used. Connect to GND (Pin 39) for better heat dissipation.", 32 NC "Not Used. Connect to GND (Pin 39) for better heat dissipation."

## LT3477EFE
designator U?
3 A, DC/DC Converter with Dual Rail-to-Rail Current Sense, 2.3 to 25 V Vin, 40 V Vout MAX, 20-pin SOP (FE-20-EPV-CB), -40 to 85 degC; Manufacturer: Linear Technology; PartNumber: LT3477EFE; Topology: Buck, Boost, Buck-Boost; Vin Min(V): 2.3; DatasheetVersion: Rev. C; PackageVersion: Rev. I, 05/2011; PackageReference: FE-20; PackageDescription: 20-Pin Plastic TSSOP, Body 6.5 x 4.4 mm, Pitch 0.65 mm; Supplier 1: Newark; Supplier Part Number 1: 57M8309; RoHS: FALSE; Mounting Technology: Surface Mount; ComponentLink1Description: Manufacturer URL; ComponentLink1URL: http://www.linear.com/; ComponentLink2Description: Datasheet; ComponentLink2URL: http://cds.linear.com/docs/en/datasheet/3477fc.pdf; ComponentLink3Description: Package Specification; ComponentLink3URL: http://cds.linear.com/docs/en/packaging/05081663__J_FE20(CB).pdf
footprint LT-FE-20-EPV-CB_N (SOP, 20-Leads, Body 6.6x4.5mm, Pitch 0.65mm, Thermal Pad 3.86x2.74mm, IPC Medium Density)
footprint LT-FE-20-EPV-CB_L (SOP, 20-Leads, Body 6.6x4.5mm, Pitch 0.65mm, Thermal Pad 3.86x2.74mm, IPC High Density)
footprint LT-FE-20-EPV-CB_M (SOP, 20-Leads, Body 6.6x4.5mm, Pitch 0.65mm, Thermal Pad 3.86x2.74mm, IPC Low Density)
pins: 1 VIN (power) "Input Supply. Must be locally bypassed. Powers the internal control circuitry.", 2 RT "Timing Resistor Pin. Adjusts the switching frequency. Connect a 17.2k resistor between RT and GND for a 1MHz switching frequency. Do not leave this pin open. See Table 4 for additional RT values and switching frequencies.", 3 ~{SHDN} (in) "Shutdown. Tie to 2V or greater to enable the device. Tie below 0.3V to turn off the device", 4 SS (in) "Soft-Start. Place a soft-start capacitor here. Leave floating if not in use.", 5 VC "Compensation Pin for Error Amplifier. Connect a series RC from this pin to GND. Typical values are 1kohm and 4.7nF.", 6 FBN (in) "The Inverting Input to the Error Amplifier. Connect resistive divider tap here for positive output voltage.", 7 FBP (in) "The Noninverting Input to the Error Amplifier. Connect resistive divider tap here for negative output voltage", 8 VREF "Bandgap Voltage Reference. Internally set to 1.235V. Connect this pin to FBP if generating a positive output or to an external resistor divider if generating a negative voltage. This pin can provide up  to 100uA of current (See Datasheet)", 9 IADJ2 (in) "Second Current Sense Adjustment. Setting IADJ2 to be less than 625mV leads to adjustment of the sensed voltage of the second current sense amplifier linearly. If IADJ2 is tied to higher than 650mV, the default current sense (See Datasheet)", 10 IADJ1 (in) "First Current Sense Adjustment. Setting IADJ1 to be less than 625mV leads to adjustment of the sensed voltage of the first current sense amplifier linearly. If IADJ1 is tied to higher than 650mV, the default current sense (See Datasheet)", 11 ISP2 (in) "Second Current Sense (+) Pin. The noninverting input to the second current sense amplifier. Connect to ISN2 if not used.", 12 ISN2 (in) "Second Current Sense (-) Pin. The inverting input to the second current sense amplifier. Connect to ISP2 if not used.", 13 ISP1 (in) "First Current Sense (+) Pin. The noninverting input to the first current sense amplifier. Connect to ISN1 if not used.", 14 ISN1 (in) "First Current Sense (-) Pin. The inverting input to the first current sense amplifier. Connect to ISP1 if not used.", 15 GND (power) "Ground. Tie directly to local ground plane.", 16 SW (power) "Switch Pins. Collector of the internal NPN power switch. Connect the inductor and diode here and minimize the metal trace area connected to this pin to minimize electromagnetic interference.", 17 SW (power) "Switch Pins. Collector of the internal NPN power switch. Connect the inductor and diode here and minimize the metal trace area connected to this pin to minimize electromagnetic interference.", 18 NC "No Connect Pin. Okay to connect to ground or VIN, or to float.", 19 NC "No Connect Pin. Okay to connect to ground or VIN, or to float.", 20 NC "No Connect Pin. Okay to connect to ground or VIN, or to float.", 21 EP (power) "Power Ground. Must be soldered to PCB ground for electrical contact and rated thermal performance."